# EAGLE library part M07_TPADS (library custom)
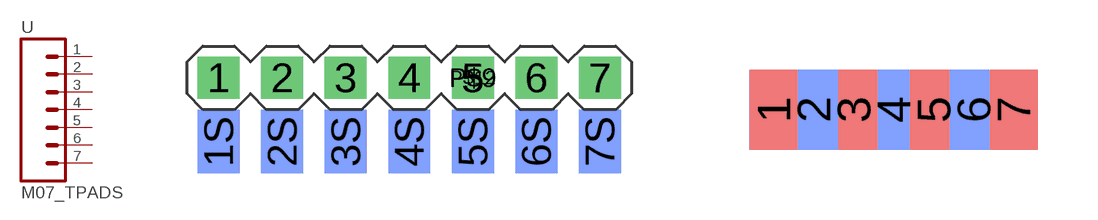
[diagram p9: symbol with the pads of M07_TPADS; footprints M07_TPADS, M07_IDC]

Designator prefix -

## M07_TPADSTPADS  [M07_TPADS]
1  1  pas
2  2  pas
3  3  pas
4  4  pas
5  5  pas
6  6  pas
7  7  pas

## M07_TPADS  [M07_IDC]
Pads as for M07_TPADS

## Footprint M07_TPADS (pad centres in mm)
drill 1.016 pad 1.676 square: 1 0,0; 2 2.54,0; 3 5.08,0; 4 7.62,0; 5 10.16,0; 6 12.7,0; 7 15.24,0; P$9 10.16,0; P$12 10.16,0
smd 1.676 x 2.54 bottom: 1S 0,-2.54; 2S 2.54,-2.54; 3S 5.08,-2.54; 4S 7.62,-2.54; 5S 10.16,-2.54; 6S 12.7,-2.54; 7S 15.24,-2.54

## Footprint M07_IDC (pad centres in mm)
smd 1.2 x 2: 1 -3,0; 3 -1,0; 5 1,0; 7 3,0
smd 1.2 x 2 bottom: 2 -2,0; 4 0,0; 6 2,0